# Altium footprint library DIOAD1060W70L435D230.PcbLib: 1 footprints
Each footprint in its own frame and in the unit in brackets; x right, y up, seen from the top. Pads: shape width x height; smd on the part's side, far side on the other; paste and mask are expansions set on the pad; w line width, h text height; cw(c..) or ccw(c..) is an arc to the next point about the centre after c.
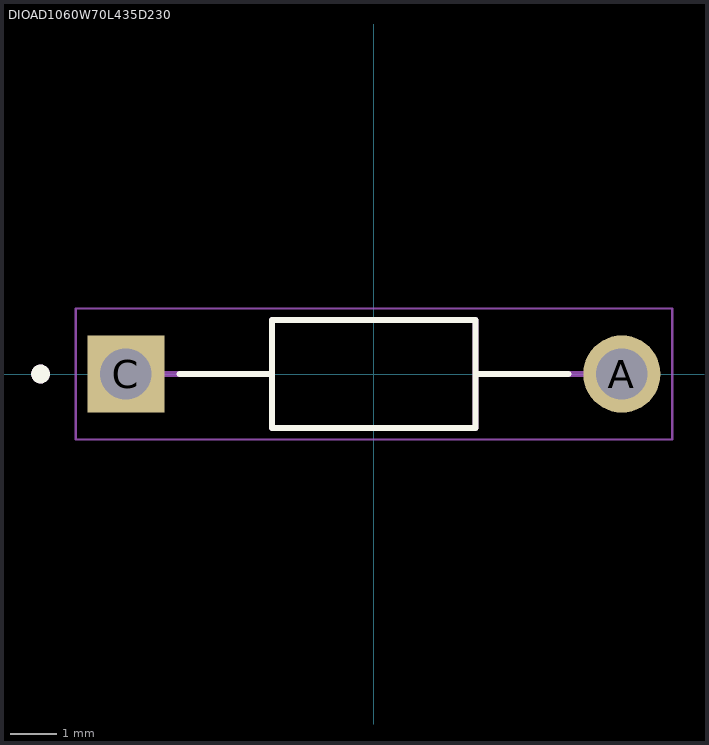
[diagram p0: the footprint, top view; thin cyan lines are the x and y axes]

## DIOAD1060W70L435D230 [mm]
height 2.8
pads (2):
  round 1.65 hole 1.1: A(5.3,0)
  rect 1.65x1.65 / inner round 1.65 / far side rect 1.65x1.65 hole 1.1: C(-5.3,0)
Top Overlay:
  circle w0.2: c-7.125,0 r0.1
  lines w0.127: -4.155,0 -2.175,0 ; 4.155,0 2.175,0 ; -2.175,0 -2.175,1.15 2.175,1.15 2.175,0 ; -2.175,0 -2.175,-1.15 2.175,-1.15 2.175,0
Assembly Top:
  circle w0.2: c-7.125,0 r0.1
  lines w0.127: -5.3,0 -2.175,0 ; 5.3,0 2.175,0 ; -2.175,0 -2.175,1.15 2.175,1.15 2.175,0 ; -2.175,0 -2.175,-1.15 2.175,-1.15 2.175,0
Courtyard Top:
  lines w0.05: -6.375,-1.4 -6.375,1.4 6.375,1.4 6.375,-1.4 -6.375,-1.4
3D body "step_temp.STEP": height 2.7, standoff -21.05, extent -5.743,-1.35 5.743,1.35